# EAGLE library part ADC_CON_SPI (library Arduino_Board)
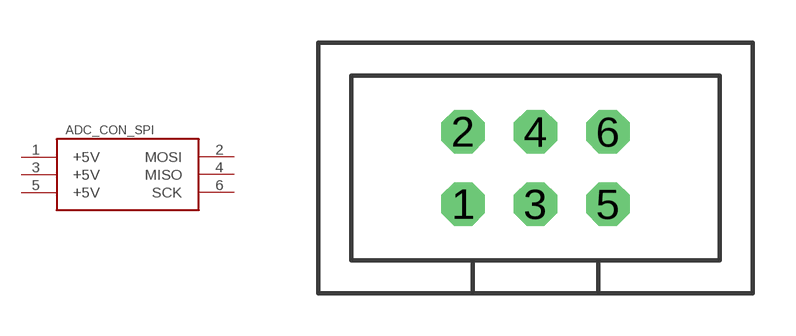
[diagram p4: symbol with the pads of T821_2X03; footprint T821_2X03]

Designator prefix -

## ADC_CON_SPI  [T821_2X03]
1  +5V
2  MOSI
3  +5V
4  MISO
5  +5V
6  SCK

## Footprint T821_2X03 (pad centres in mm)
drill 1.016 octagon: 1 -2.54,-1.27; 2 -2.54,1.27; 3 0,-1.27; 4 0,1.27; 5 2.54,-1.27; 6 2.54,1.27